# EAGLE library part TPS61182RTER (library TexasInstruments)
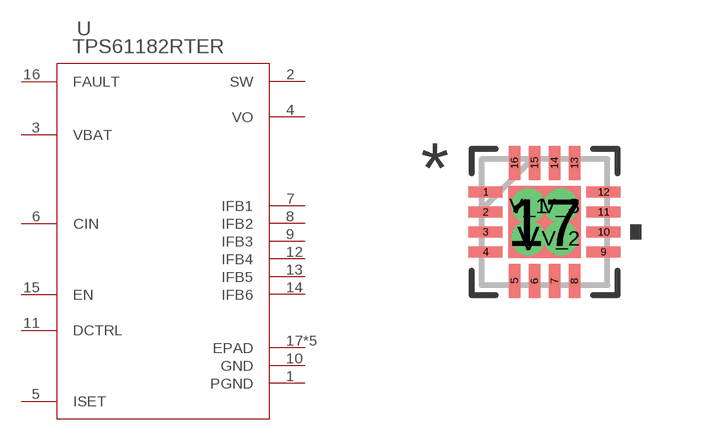
[diagram p10: symbol with the pads of RTE16_1P7X1P7; footprint RTE16_1P7X1P7]

Designator prefix U

## TPS61182RTER (COPYRIGHT: Copyright (C) 2022 Ultra Librarian. All rights reserved.; MANUFACTURER_PART_NUMBER: TPS61182RTER; MFR_NAME: Texas Instruments)  [RTE16_1P7X1P7]
1  PGND  in
2  SW  in
3  VBAT  in
4  VO  out
5  ISET  in
6  CIN  in
7  IFB1  in
8  IFB2  in
9  IFB3  in
10  GND  in
11  DCTRL  in
12  IFB4  in
13  IFB5  in
14  IFB6  in
15  EN  in
16  FAULT  in
17  EPAD  pas
V  EPAD  pas
V_1  EPAD  pas
V_2  EPAD  pas
V_3  EPAD  pas

## Footprint RTE16_1P7X1P7 (pad centres in mm)
smd 0.85 x 0.28: 1 -1.475,0.75; 2 -1.475,0.25; 3 -1.475,-0.25; 4 -1.475,-0.75; 9 1.475,-0.75; 10 1.475,-0.25; 11 1.475,0.25; 12 1.475,0.75
smd 0.28 x 0.85: 5 -0.75,-1.475; 6 -0.25,-1.475; 7 0.25,-1.475; 8 0.75,-1.475; 13 0.75,1.475; 14 0.25,1.475; 15 -0.25,1.475; 16 -0.75,1.475
smd 1.803 x 1.803: 17 0,0
drill 0.35 pad 0.6: V -0.406,-0.406; V_1 -0.406,0.406; V_2 0.406,-0.406; V_3 0.406,0.406